# Altium footprint library J 接插件.PcbLib: 458 footprints (part 25 of 29)
Each footprint in its own frame and in the unit in brackets; x right, y up, seen from the top. Pads: shape width x height; smd on the part's side, far side on the other; paste and mask are expansions set on the pad; w line width, h text height; cw(c..) or ccw(c..) is an arc to the next point about the centre after c.
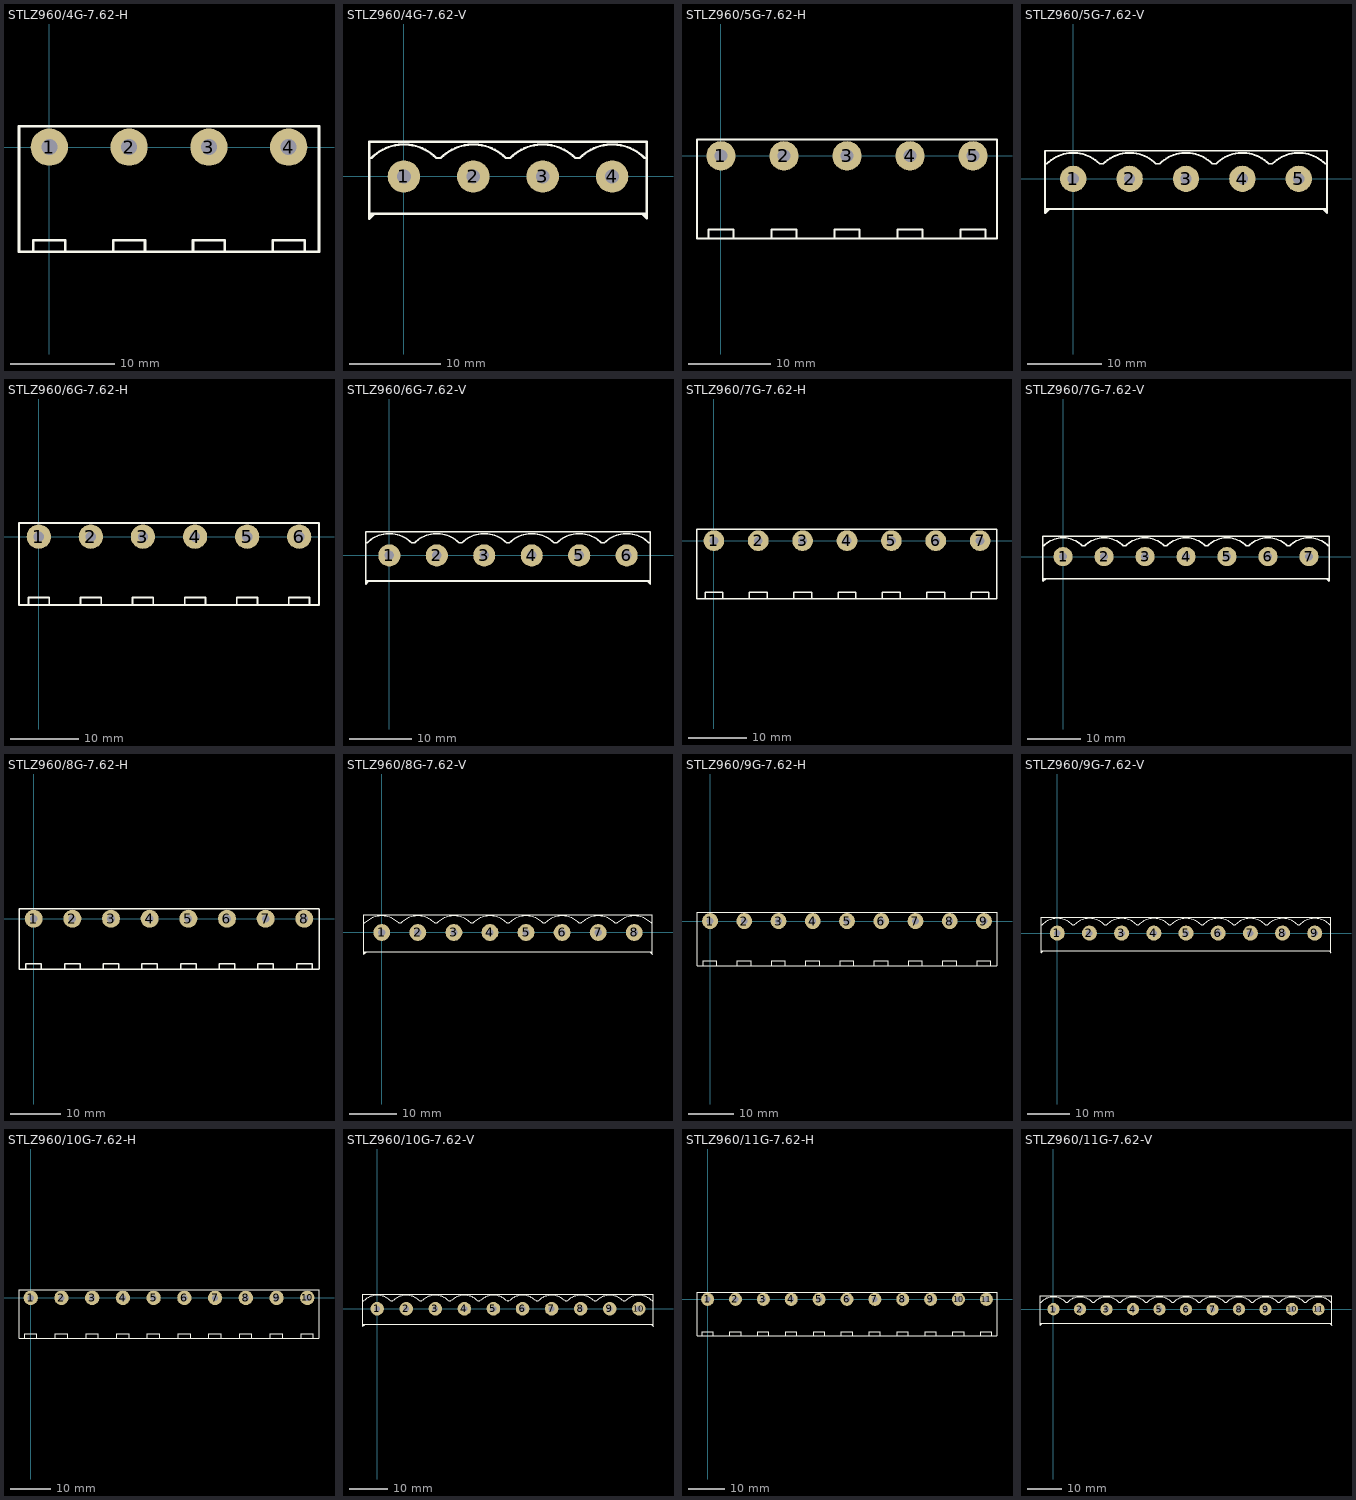
[diagram p24: the footprints below, top view; thin cyan lines are the x and y axes]

## STLZ960/4G-7.62-H [mil] "美卡诺 STLZ960 接触件座  间距：7.62   4Pin   弯角"
height 330.71
pads (4):
  round 140 hole 60: 1(0,0) 2(300,0) 3(600,0) 4(900,0)
Top Overlay:
  lines w10: -60,-390 -60,-350 60,-350 60,-390 ; 240,-390 240,-350 360,-350 360,-390 ; 540,-390 540,-350 660,-350 660,-390 ; 840,-390 840,-350 960,-350 960,-390 ; -114.17,-393.7 -114.17,78.74 1014.17,78.74 1014.17,-393.7 -114.17,-393.7

## STLZ960/4G-7.62-V [mil] "美卡诺 STLZ960 接触件座  间距：7.62   4Pin"
height 826.77
pads (4):
  round 140 hole 60: 1(0,0) 2(300,0) 3(600,0) 4(900,0)
Top Overlay:
  lines w10: -150,-181.1 -150,149.61 1050,149.61 1050,-181.1 ; -150,-161.42 1050,-161.42 ; -149.61,-182.09 -149.61,-181.1 ; -149.61,80 -140,80 cw(c0,-60) 140,80 160,80 cw(c300,-60) 440,80 460,80 cw(c600,-60) 740,80 ; -148.62,-182.09 -130.91,-164.37 ; -142.72,-173.23 -142.72,-163.39 ; 748.82,80 740,80 ; 1033.27,-165.35 1049.02,-181.1 ; 1043.11,-170.28 1043.11,-162.4 ; 1048.82,80 1040,80 ccw(c900,-60) 760,80 740,80

## STLZ960/5G-7.62-H [mil] "美卡诺 STLZ960 接触件座  间距：7.62   5Pin   弯角"
height 330.71
pads (5):
  round 140 hole 60: 1(0,0) 2(300,0) 3(600,0) 4(900,0) 5(1200,0)
Top Overlay:
  lines w10: -60,-390 -60,-350 60,-350 60,-390 ; 240,-390 240,-350 360,-350 360,-390 ; 540,-390 540,-350 660,-350 660,-390 ; 840,-390 840,-350 960,-350 960,-390 ; 1140,-390 1140,-350 1260,-350 1260,-390 ; -114.17,-393.7 -114.17,78.74 1314.17,78.74 1314.17,-393.7 -114.17,-393.7

## STLZ960/5G-7.62-V [mil] "美卡诺 STLZ960 接触件座  间距：7.62   5Pin"
height 826.77
pads (5):
  round 140 hole 60: 1(0,0) 2(300,0) 3(600,0) 4(900,0) 5(1200,0)
Top Overlay:
  lines w10: -150,-181.1 -150,149.61 1350,149.61 1350,-181.1 ; -150,-161.42 1350,-161.42 ; -149.61,-182.09 -149.61,-181.1 ; -149.61,80 -140,80 cw(c0,-60) 140,80 160,80 cw(c300,-60) 440,80 460,80 cw(c600,-60) 740,80 ; -148.62,-182.09 -130.91,-164.37 ; -142.72,-173.23 -142.72,-163.39 ; 748.82,80 740,80 ; 1333.27,-165.35 1349.02,-181.1 ; 1343.11,-170.28 1343.11,-162.4 ; 1348.82,80 1340,80 ccw(c1200,-60) 1060,80 1040,80 ; 740,80 760,80 cw(c900,-60) 1040,80 ; 1040,80 1048.82,80 1040,80

## STLZ960/6G-7.62-H [mil] "美卡诺 STLZ960 接触件座  间距：7.62   6Pin   弯角"
height 330.71
pads (6):
  round 140 hole 60: 1(0,0) 2(300,0) 3(600,0) 4(900,0) 5(1200,0) 6(1500,0)
Top Overlay:
  lines w10: -60,-390 -60,-350 60,-350 60,-390 ; 240,-390 240,-350 360,-350 360,-390 ; 540,-390 540,-350 660,-350 660,-390 ; 840,-390 840,-350 960,-350 960,-390 ; 1140,-390 1140,-350 1260,-350 1260,-390 ; 1440,-390 1440,-350 1560,-350 1560,-390 ; -114.17,-393.7 -114.17,78.74 1614.17,78.74 1614.17,-393.7 -114.17,-393.7

## STLZ960/6G-7.62-V [mil] "美卡诺 STLZ960 接触件座  间距：7.62   6Pin"
height 826.77
pads (6):
  round 140 hole 60: 1(0,0) 2(300,0) 3(600,0) 4(900,0) 5(1200,0) 6(1500,0)
Top Overlay:
  lines w10: -150,-181.1 -150,149.61 1650,149.61 1650,-181.1 ; -150,-161.42 1650,-161.42 ; -149.61,-182.09 -149.61,-181.1 ; -149.61,80 -140,80 cw(c0,-60) 140,80 160,80 cw(c300,-60) 440,80 460,80 cw(c600,-60) 740,80 ; -148.62,-182.09 -130.91,-164.37 ; -142.72,-173.23 -142.72,-163.39 ; 748.82,80 740,80 ; 1633.27,-165.35 1649.02,-181.1 ; 1643.11,-170.28 1643.11,-162.4 ; 1648.82,80 1640,80 ccw(c1500,-60) 1360,80 1340,80 ccw(c1200,-60) 1060,80 1040,80 ccw(c900,-60) 760,80 740,80

## STLZ960/7G-7.62-H [mil] "美卡诺 STLZ960 接触件座  间距：7.62   7Pin   弯角"
height 330.71
pads (7):
  round 140 hole 60: 1(0,0) 2(300,0) 3(600,0) 4(900,0) 5(1200,0) 6(1500,0) 7(1800,0)
Top Overlay:
  lines w10: -60,-390 -60,-350 60,-350 60,-390 ; 240,-390 240,-350 360,-350 360,-390 ; 540,-390 540,-350 660,-350 660,-390 ; 840,-390 840,-350 960,-350 960,-390 ; 1140,-390 1140,-350 1260,-350 1260,-390 ; 1440,-390 1440,-350 1560,-350 1560,-390 ; 1740,-390 1740,-350 1860,-350 1860,-390 ; -114.17,-393.7 1914.17,-393.7 1914.17,78.74 -114.17,78.74 -114.17,-393.7

## STLZ960/7G-7.62-V [mil] "美卡诺 STLZ960 接触件座  间距：7.62   7Pin"
height 826.77
pads (7):
  round 140 hole 60: 1(0,0) 2(300,0) 3(600,0) 4(900,0) 5(1200,0) 6(1500,0) 7(1800,0)
Top Overlay:
  lines w10: -150,-181.1 -150,149.61 1950,149.61 1950,-181.1 ; -150,-161.42 1950,-161.42 ; -149.61,-182.09 -149.61,-181.1 ; -149.61,80 -140,80 cw(c0,-60) 140,80 160,80 cw(c300,-60) 440,80 460,80 cw(c600,-60) 740,80 ; -148.62,-182.09 -130.91,-164.37 ; -142.72,-173.23 -142.72,-163.39 ; 748.82,80 740,80 ; 1933.27,-165.35 1949.02,-181.1 ; 1943.11,-170.28 1943.11,-162.4 ; 1948.82,80 1940,80 ccw(c1800,-60) 1660,80 1640,80 ccw(c1500,-60) 1360,80 1340,80 ccw(c1200,-60) 1060,80 1040,80 ccw(c900,-60) 760,80 740,80

## STLZ960/8G-7.62-H [mil] "美卡诺 STLZ960 接触件座  间距：7.62   8Pin   弯角"
height 330.71
pads (8):
  round 140 hole 60: 1(0,0) 2(300,0) 3(600,0) 4(900,0) 5(1200,0) 6(1500,0) 7(1800,0) 8(2100,0)
Top Overlay:
  lines w10: -60,-390 -60,-350 60,-350 60,-390 ; 240,-390 240,-350 360,-350 360,-390 ; 540,-390 540,-350 660,-350 660,-390 ; 840,-390 840,-350 960,-350 960,-390 ; 1140,-390 1140,-350 1260,-350 1260,-390 ; 1440,-390 1440,-350 1560,-350 1560,-390 ; 1740,-390 1740,-350 1860,-350 1860,-390 ; 2040,-390 2040,-350 2160,-350 2160,-390 ; -114.17,-393.7 2214.17,-393.7 2214.17,78.74 -114.17,78.74 -114.17,-393.7

## STLZ960/8G-7.62-V [mil] "美卡诺 STLZ960 接触件座  间距：7.62   8Pin"
height 826.77
pads (8):
  round 140 hole 60: 1(0,0) 2(300,0) 3(600,0) 4(900,0) 5(1200,0) 6(1500,0) 7(1800,0) 8(2100,0)
Top Overlay:
  lines w10: -150,-181.1 -150,149.61 2250,149.61 2250,-181.1 ; -150,-161.42 2250,-161.42 ; -149.61,-182.09 -149.61,-181.1 ; -149.61,80 -140,80 cw(c0,-60) 140,80 160,80 cw(c300,-60) 440,80 460,80 cw(c600,-60) 740,80 ; -148.62,-182.09 -130.91,-164.37 ; -142.72,-173.23 -142.72,-163.39 ; 748.82,80 740,80 ; 2233.27,-165.35 2249.02,-181.1 ; 2243.11,-170.28 2243.11,-162.4 ; 2248.82,80 2240,80 ccw(c2100,-60) 1960,80 1940,80 ccw(c1800,-60) 1660,80 1640,80 ccw(c1500,-60) 1360,80 1340,80 ccw(c1200,-60) 1060,80 1040,80 ccw(c900,-60) 760,80 740,80

## STLZ960/9G-7.62-H [mil] "美卡诺 STLZ960 接触件座  间距：7.62   9Pin   弯角"
height 330.71
pads (9):
  round 140 hole 60: 1(0,0) 2(300,0) 3(600,0) 4(900,0) 5(1200,0) 6(1500,0) 7(1800,0) 8(2100,0) 9(2400,0)
Top Overlay:
  lines w10: -60,-390 -60,-350 60,-350 60,-390 ; 240,-390 240,-350 360,-350 360,-390 ; 540,-390 540,-350 660,-350 660,-390 ; 840,-390 840,-350 960,-350 960,-390 ; 1140,-390 1140,-350 1260,-350 1260,-390 ; 1440,-390 1440,-350 1560,-350 1560,-390 ; 1740,-390 1740,-350 1860,-350 1860,-390 ; 2040,-390 2040,-350 2160,-350 2160,-390 ; 2340,-390 2340,-350 2460,-350 2460,-390 ; -114.17,-393.7 -114.17,78.74 2514.17,78.74 2514.17,-393.7 -114.17,-393.7

## STLZ960/9G-7.62-V [mil] "美卡诺 STLZ960 接触件座  间距：7.62   9Pin"
height 826.77
pads (9):
  round 140 hole 60: 1(0,0) 2(300,0) 3(600,0) 4(900,0) 5(1200,0) 6(1500,0) 7(1800,0) 8(2100,0) 9(2400,0)
Top Overlay:
  lines w10: -150,-181.1 -150,149.61 2550,149.61 2550,-181.1 ; -150,-161.42 2550,-161.42 ; -149.61,-182.09 -149.61,-181.1 ; -149.61,80 -140,80 cw(c0,-60) 140,80 160,80 cw(c300,-60) 440,80 460,80 cw(c600,-60) 740,80 ; -148.62,-182.09 -130.91,-164.37 ; -142.72,-173.23 -142.72,-163.39 ; 748.82,80 740,80 ; 2533.27,-165.35 2549.02,-181.1 ; 2543.11,-170.28 2543.11,-162.4 ; 2548.82,80 2540,80 ccw(c2400,-60) 2260,80 2240,80 ccw(c2100,-60) 1960,80 1940,80 ccw(c1800,-60) 1660,80 1640,80 ccw(c1500,-60) 1360,80 1340,80 ccw(c1200,-60) 1060,80 1040,80 ccw(c900,-60) 760,80 740,80

## STLZ960/10G-7.62-H [mil] "美卡诺 STLZ960 接触件座  间距：7.62   10Pin   弯角"
height 330.71
pads (10):
  round 140 hole 60: 1(0,0) 2(300,0) 3(600,0) 4(900,0) 5(1200,0) 6(1500,0) 7(1800,0) 8(2100,0) 9(2400,0) 10(2700,0)
Top Overlay:
  lines w10: -60,-390 -60,-350 60,-350 60,-390 ; 240,-390 240,-350 360,-350 360,-390 ; 540,-390 540,-350 660,-350 660,-390 ; 840,-390 840,-350 960,-350 960,-390 ; 1140,-390 1140,-350 1260,-350 1260,-390 ; 1440,-390 1440,-350 1560,-350 1560,-390 ; 1740,-390 1740,-350 1860,-350 1860,-390 ; 2040,-390 2040,-350 2160,-350 2160,-390 ; 2340,-390 2340,-350 2460,-350 2460,-390 ; 2640,-390 2640,-350 2760,-350 2760,-390 ; -114.17,-393.7 -114.17,78.74 2814.17,78.74 2814.17,-393.7 -114.17,-393.7

## STLZ960/10G-7.62-V [mil] "美卡诺 STLZ960 接触件座  间距：7.62   10Pin"
height 826.77
pads (10):
  round 140 hole 60: 1(0,0) 2(300,0) 3(600,0) 4(900,0) 5(1200,0) 6(1500,0) 7(1800,0) 8(2100,0) 9(2400,0) 10(2700,0)
Top Overlay:
  lines w10: -150,-181.1 -150,149.61 2850,149.61 2850,-181.1 ; -150,-161.42 2850,-161.42 ; -149.61,-182.09 -149.61,-181.1 ; -149.61,80 -140,80 cw(c0,-60) 140,80 160,80 cw(c300,-60) 440,80 460,80 cw(c600,-60) 740,80 ; -148.62,-182.09 -130.91,-164.37 ; -142.72,-173.23 -142.72,-163.39 ; 748.82,80 740,80 ; 2833.27,-165.35 2849.02,-181.1 ; 2843.11,-170.28 2843.11,-162.4 ; 2848.82,80 2840,80 ccw(c2700,-60) 2560,80 2540,80 ccw(c2400,-60) 2260,80 2240,80 ccw(c2100,-60) 1960,80 1940,80 ccw(c1800,-60) 1660,80 1640,80 ccw(c1500,-60) 1360,80 1340,80 ccw(c1200,-60) 1060,80 1040,80 ccw(c900,-60) 760,80 740,80

## STLZ960/11G-7.62-H [mil] "美卡诺 STLZ960 接触件座  间距：7.62   11Pin   弯角"
height 330.71
pads (11):
  round 140 hole 60: 1(0,0) 2(300,0) 3(600,0) 4(900,0) 5(1200,0) 6(1500,0) 7(1800,0) 8(2100,0) 9(2400,0) 10(2700,0) 11(3000,0)
Top Overlay:
  lines w10: -60,-390 -60,-350 60,-350 60,-390 ; 240,-390 240,-350 360,-350 360,-390 ; 540,-390 540,-350 660,-350 660,-390 ; 840,-390 840,-350 960,-350 960,-390 ; 1140,-390 1140,-350 1260,-350 1260,-390 ; 1440,-390 1440,-350 1560,-350 1560,-390 ; 1740,-390 1740,-350 1860,-350 1860,-390 ; 2040,-390 2040,-350 2160,-350 2160,-390 ; 2340,-390 2340,-350 2460,-350 2460,-390 ; 2640,-390 2640,-350 2760,-350 2760,-390 ; 2940,-390 2940,-350 3060,-350 3060,-390 ; -114.17,-393.7 -114.17,78.74 3114.17,78.74 3114.17,-393.7 -114.17,-393.7

## STLZ960/11G-7.62-V [mil] "美卡诺 STLZ960 接触件座  间距：7.62   11Pin"
height 826.77
pads (11):
  round 140 hole 60: 1(0,0) 2(300,0) 3(600,0) 4(900,0) 5(1200,0) 6(1500,0) 7(1800,0) 8(2100,0) 9(2400,0) 10(2700,0) 11(3000,0)
Top Overlay:
  lines w10: -150,-181.1 -150,149.61 3150,149.61 3150,-181.1 ; -150,-161.42 3150,-161.42 ; -149.61,-182.09 -149.61,-181.1 ; -149.61,80 -140,80 cw(c0,-60) 140,80 160,80 cw(c300,-60) 440,80 460,80 cw(c600,-60) 740,80 ; -148.62,-182.09 -130.91,-164.37 ; -142.72,-173.23 -142.72,-163.39 ; 748.82,80 740,80 ; 3133.27,-165.35 3149.02,-181.1 ; 3143.11,-170.28 3143.11,-162.4 ; 3148.82,80 3140,80 ccw(c3000,-60) 2860,80 2840,80 ccw(c2700,-60) 2560,80 2540,80 ccw(c2400,-60) 2260,80 2240,80 ccw(c2100,-60) 1960,80 1940,80 ccw(c1800,-60) 1660,80 1640,80 ccw(c1500,-60) 1360,80 1340,80 ccw(c1200,-60) 1060,80 1040,80 ccw(c900,-60) 760,80 740,80